# EAGLE library part AD5930 (library AD5930)
Programmable Waveform Generator Output up to 25MHz Serial Interface Check prices <https://pricing.snapeda.com/parts/AD5930/Analog%20Devices/view-part?ref=eda>
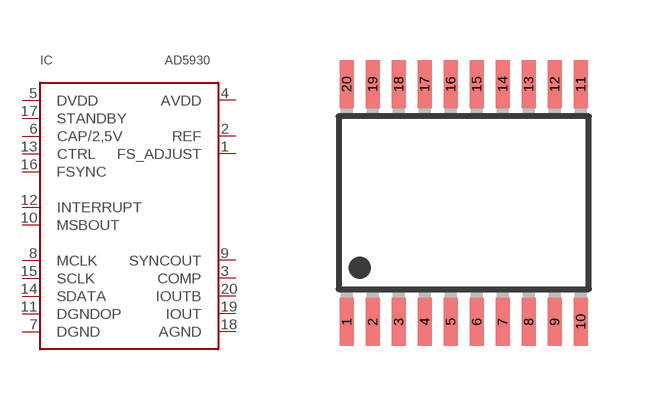
[diagram p0: symbol with the pads of TSSOP20; footprint TSSOP20]

Designator prefix IC

## AD5930 (Availability: In Stock; Description: Direct Digital Synthesis IC 10 b 50MHz 24 b Tuning 20-TSSOP; MF: Analog Devices; MP: AD5930; Package: TSSOP-20 Analog Devices; Price: None; Purchase-URL: https://pricing.snapeda.com/search/part/AD5930/?ref=eda)  [TSSOP20]
1  FS_ADJUST
2  REF
3  COMP
4  AVDD  pwr
5  DVDD  pwr
6  CAP/2,5V
7  DGND  pwr
8  MCLK
9  SYNCOUT
10  MSBOUT
11  DGNDOP  pwr
12  INTERRUPT
13  CTRL
14  SDATA
15  SCLK
16  FSYNC
17  STANDBY
18  AGND  pwr
19  IOUT
20  IOUTB

## Footprint TSSOP20 (pad centres in mm)
smd 0.35 x 1.2: 1 -2.275,-2.97; 2 -1.625,-2.97; 3 -0.975,-2.97; 4 -0.325,-2.97; 5 0.325,-2.97; 6 0.975,-2.97; 7 1.625,-2.97; 8 2.275,-2.97; 9 2.925,-2.97; 10 3.575,-2.97; 11 3.575,2.97; 12 2.925,2.97; 13 2.275,2.97; 14 1.625,2.97; 15 0.975,2.97; 16 0.325,2.97; 17 -0.325,2.97; 18 -0.975,2.97; 19 -1.625,2.97; 20 -2.275,2.97